# Altium schematic symbol library Crystal.Schlib: 3 symbols
Pins are listed as number, name and electrical type; pins without a type are passive.

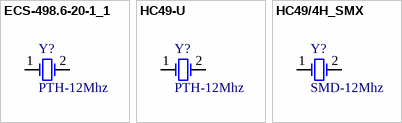
[diagram p0: symbols ECS-498.6-20-1_1 to HC49/4H_SMX]

## ECS-498.6-20-1_1
designator Y?, comment PTH-12Mhz
Crystal Oscillator
footprint BCY-W2/D3.1 (Crystal, Thru-Hole; 2 Leads; Body 3.1 x 8.2 mm (Dia.xH))
pins: 1 OSC1, 2 OSC2

## HC49-U
designator Y?, comment PTH-12Mhz
Crystal Oscillator
footprint HC-49U (Quartz Crystal, Thru-Hole; 2 Leads; Body 11.35 x 4.65 x 13.46 mm (LxWxH max))
pins: 1 OSC1, 2 OSC2

## HC49/4H_SMX
designator Y?, comment SMD-12Mhz
Surface Mount Quartz Crystal
footprint HC49/4H_SMX (Surface Mount Quartz Crystal; Body 13.4 (inc. leads) x 4.9 mm (LxW max))
pins: 1 OSC1, 2 OSC2